# EAGLE library part MAX864EEE (library IC)
Dual-Output Charge Pump with shutdown
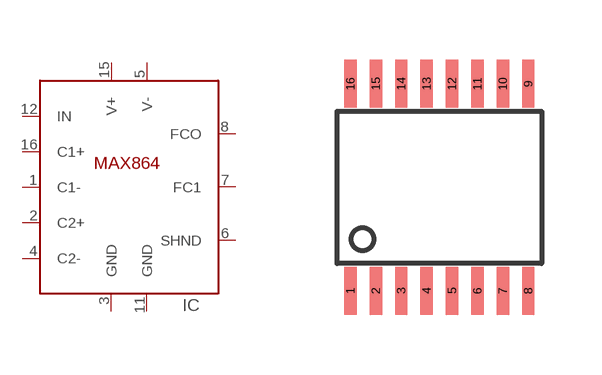
[diagram p37: symbol with the pads of QSOP-16; footprint QSOP-16]

Designator prefix IC

## MAX864EEE  [QSOP-16]
1  C1-
2  C2+
3  GND  pwr
4  C2-
5  V-  pwr
6  SHND
7  FC1
8  FCO
11  GND  pwr
12  IN  in
15  V+  pwr
16  C1+

## Footprint QSOP-16 (pad centres in mm)
QSOP 16 pin package
smd 0.31 x 1.2: 1 -1.905,-2.59; 2 -1.27,-2.59; 3 -0.635,-2.59; 4 0,-2.59; 5 0.635,-2.59; 6 1.27,-2.59; 7 1.905,-2.59; 8 2.54,-2.59; 9 2.54,2.59; 10 1.905,2.59; 11 1.27,2.59; 12 0.635,2.59; 13 0,2.59; 14 -0.635,2.59; 15 -1.27,2.59; 16 -1.905,2.59